# Altium footprint library HyTechDevices.PCBLIB: 204 footprints (part 5 of 13)
Each footprint in its own frame and in the unit in brackets; x right, y up, seen from the top. Pads: shape width x height; smd on the part's side, far side on the other; paste and mask are expansions set on the pad; w line width, h text height; cw(c..) or ccw(c..) is an arc to the next point about the centre after c.
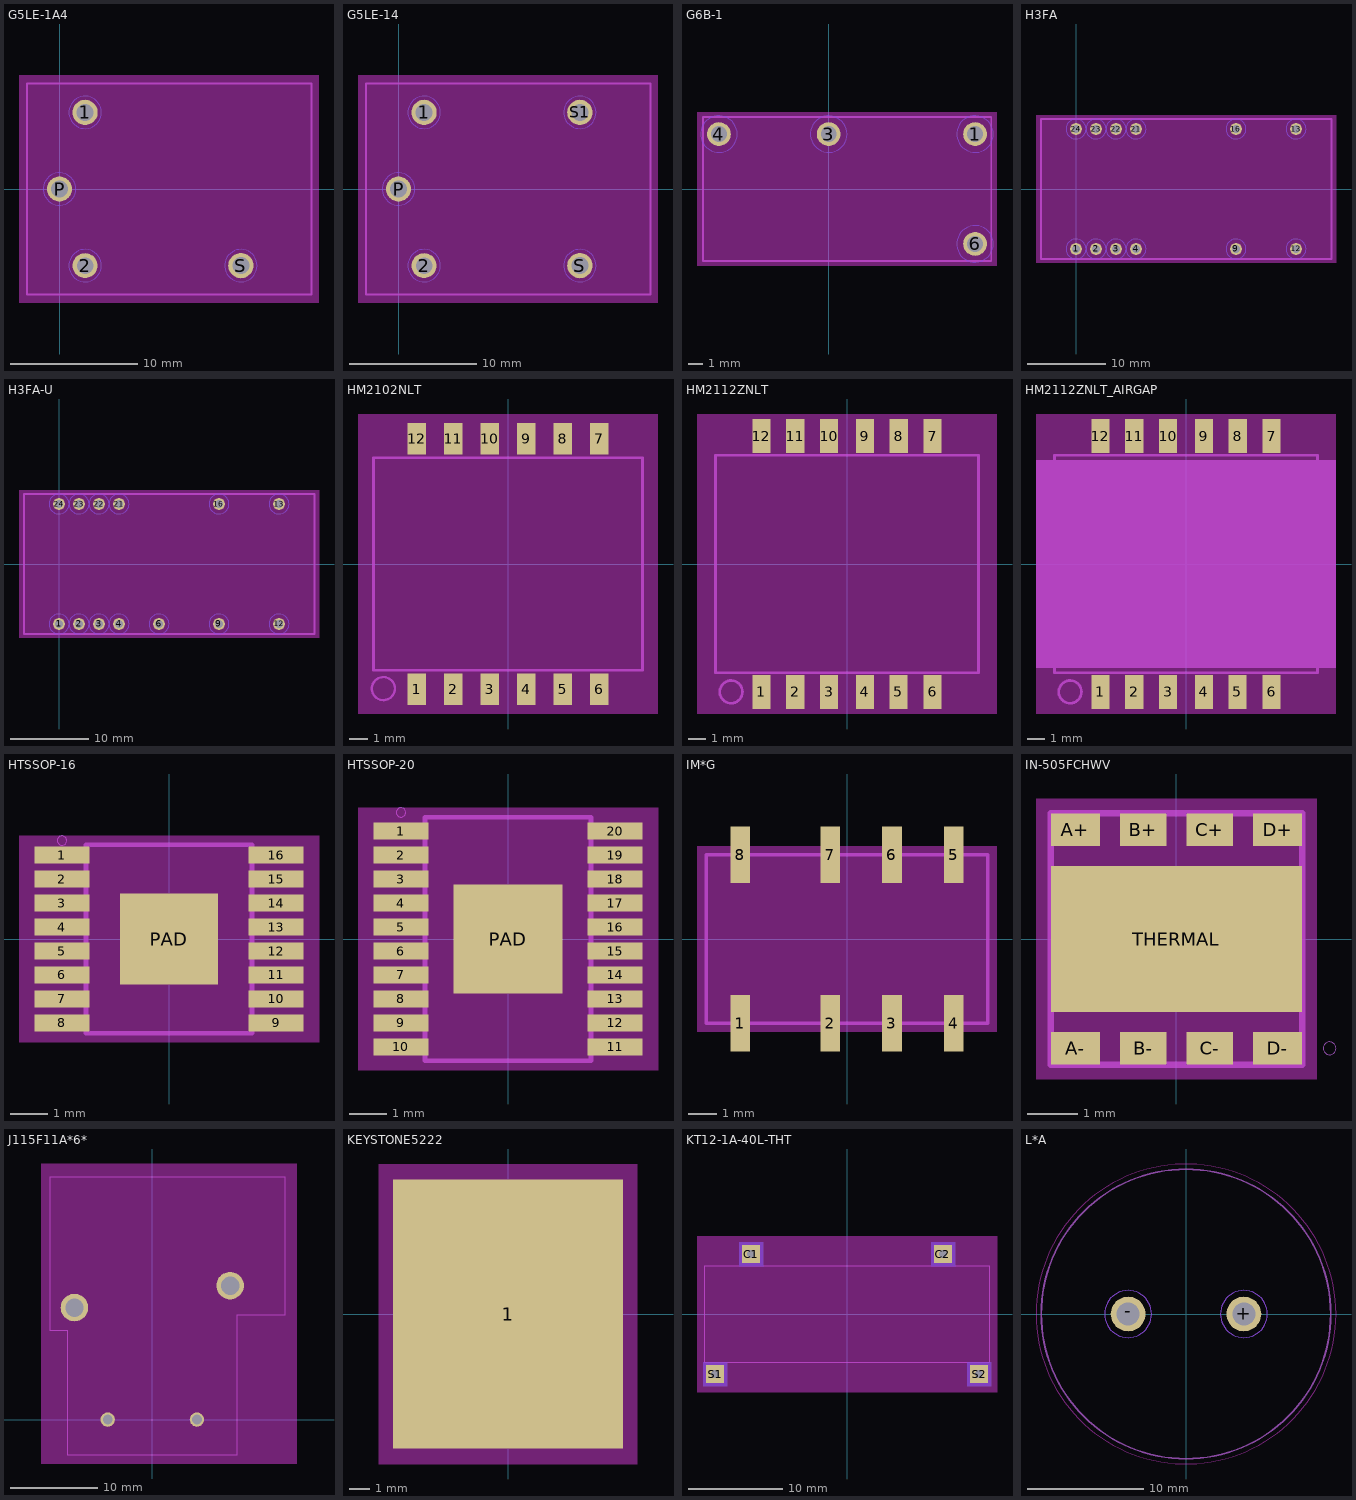
[diagram p4: the footprints below, top view; thin cyan lines are the x and y axes]

## G5LE-1A4 [mil]
pads (4):
  round 78 hole 52: 1(78.74,236.22) S(559.06,-236.22)
  round 76.77 hole 51.18: 2(78.74,-236.22) P(0,0)
Top keep-out:
  region: -125,-350 -125,350 800,350 800,-350
Bottom keep-out:
  circle w0: c78.74,236.22 r50
  circle w0: c78.74,-236.22 r50
  circle w0: c0,0 r50
  circle w0: c559.06,-236.22 r50
tPlace:
  lines w6: -100.39,-325 -100.39,325 777.56,325 777.56,-325 -100.39,-325

## G5LE-14 [mil]
pads (5):
  round 78 hole 52: 1(78.74,236.22) S(559.06,-236.22) S1(559.06,236.22)
  round 76.77 hole 51.18: 2(78.74,-236.22) P(0,0)
Top keep-out:
  region: -125,-350 -125,350 800,350 800,-350
Bottom keep-out:
  circle w0: c78.74,236.22 r50
  circle w0: c78.74,-236.22 r50
  circle w0: c0,0 r50
  circle w0: c559.06,-236.22 r50
  circle w0: c559.06,236.22 r50
tPlace:
  lines w6: -100.39,-325 -100.39,325 777.56,325 777.56,-325 -100.39,-325

## G6B-1 [mil]
pads (4):
  round 64.97 hole 43.31: 1(400,150) 3(0,150) 4(-300,150) 6(400,-150)
Top keep-out:
  region: -360,-210 -360,210 460,210 460,-210
Bottom keep-out:
  circle w0: c400,150 r50
  circle w0: c0,150 r50
  circle w0: c-300,150 r50
  circle w0: c400,-150 r50
tPlace:
  lines w5: -343.31,-196.85 -343.31,196.85 444.09,196.85 444.09,-196.85 -343.31,-196.85

## H3FA [mm]
pads (12):
  round 1.508 hole 1: 1(0,-7.62) 2(2.54,-7.62) 3(5.08,-7.62) 4(7.62,-7.62) 9(20.32,-7.62) 12(27.94,-7.62) 13(27.94,7.62) 16(20.32,7.62) 21(7.62,7.62) 22(5.08,7.62) 23(2.54,7.62) 24(0,7.62)
Top keep-out:
  region: -5.08,-9.398 -5.08,9.398 33.02,9.398 33.02,-9.398
Bottom keep-out:
  circle w0: c0,-7.62 r1.27
  circle w0: c2.54,-7.62 r1.27
  circle w0: c5.08,-7.62 r1.27
  circle w0: c7.62,-7.62 r1.27
  circle w0: c20.32,-7.62 r1.27
  circle w0: c27.94,-7.62 r1.27
  circle w0: c27.94,7.62 r1.27
  circle w0: c20.32,7.62 r1.27
  circle w0: c7.62,7.62 r1.27
  circle w0: c5.08,7.62 r1.27
  circle w0: c2.54,7.62 r1.27
  circle w0: c0,7.62 r1.27
tPlace:
  lines w0.254: -4.46,-8.875 32.44,-8.875 32.44,8.875 -4.46,8.875 -4.46,-8.875

## H3FA-U [mm]
pads (13):
  round 1.508 hole 1: 1(0,-7.62) 2(2.54,-7.62) 3(5.08,-7.62) 4(7.62,-7.62) 6(12.7,-7.62) 9(20.32,-7.62) 12(27.94,-7.62) 13(27.94,7.62) 16(20.32,7.62) 21(7.62,7.62) 22(5.08,7.62) 23(2.54,7.62) 24(0,7.62)
Top keep-out:
  region: -5.08,-9.398 -5.08,9.398 33.02,9.398 33.02,-9.398
Bottom keep-out:
  circle w0: c0,-7.62 r1.27
  circle w0: c2.54,-7.62 r1.27
  circle w0: c5.08,-7.62 r1.27
  circle w0: c7.62,-7.62 r1.27
  circle w0: c12.7,-7.62 r1.27
  circle w0: c20.32,-7.62 r1.27
  circle w0: c27.94,-7.62 r1.27
  circle w0: c27.94,7.62 r1.27
  circle w0: c20.32,7.62 r1.27
  circle w0: c7.62,7.62 r1.27
  circle w0: c5.08,7.62 r1.27
  circle w0: c2.54,7.62 r1.27
  circle w0: c0,7.62 r1.27
tPlace:
  lines w0.254: -4.46,-8.875 32.44,-8.875 32.44,8.875 -4.46,8.875 -4.46,-8.875

## HM2102NLT [mil]
pads (12):
  rect 40x67.5 smd: 1(-197.5,-271.25) 2(-118.5,-271.25) 3(-39.5,-271.25) 4(39.5,-271.25) 5(118.5,-271.25) 6(197.5,-271.25) 7(197.5,271.25) 8(118.5,271.25) 9(39.5,271.25) 10(-39.5,271.25) 11(-118.5,271.25) 12(-197.5,271.25)
Top keep-out:
  region: -325,-325 -325,325 325,325 325,-325
tPlace:
  circle w5: c-270,-270 r25
  lines w6: -291.5,-230 291.5,-230 291.5,230 -291.5,230 -291.5,-230

## HM2112ZNLT [mm]
pads (12):
  rect 1.02x1.89 smd: 1(-4.78,-7.145) 2(-2.89,-7.145) 3(-1,-7.145) 4(1,-7.145) 5(2.875,-7.145) 6(4.78,-7.145) 7(4.78,7.145) 8(2.89,7.145) 9(1,7.145) 10(-1,7.145) 11(-2.89,7.145) 12(-4.78,7.145)
Top keep-out:
  region: -8.382,-8.382 -8.382,8.382 8.382,8.382 8.382,-8.382
tPlace:
  circle w0.152: c-6.477,-7.145 r0.635
  lines w0.152: -7.351,-6.075 7.351,-6.075 7.35,6.075 -7.35,6.075 -7.351,-6.075

## HM2112ZNLT_AIRGAP [mm]
pads (12):
  rect 1.02x1.89 smd: 1(-4.78,-7.145) 2(-2.89,-7.145) 3(-1,-7.145) 4(1,-7.145) 5(2.875,-7.145) 6(4.78,-7.145) 7(4.78,7.145) 8(2.89,7.145) 9(1,7.145) 10(-1,7.145) 11(-2.89,7.145) 12(-4.78,7.145)
Top keep-out:
  region: -8.382,-8.382 -8.382,8.382 8.382,8.382 8.382,-8.382
Dimension:
  region: -8.382,5.76 -8.382,-5.76 8.382,-5.76 8.382,5.76
Milling:
  lines w0: -8.382,-5.76 8.382,-5.76 8.382,5.76 -8.382,5.76 -8.382,-5.76
tPlace:
  circle w0.152: c-6.477,-7.145 r0.635
  lines w0.152: -7.35,-6.075 7.35,-6.075 7.35,6.075 -7.35,6.075 -7.35,-6.075

## HTSSOP-16 [mm]
pads (17):
  rect 1.5x0.45 smd: 1(-2.9,2.275) 2(-2.9,1.625) 3(-2.9,0.975) 4(-2.9,0.325) 5(-2.9,-0.325) 6(-2.9,-0.975) 7(-2.9,-1.625) 8(-2.9,-2.275) 9(2.9,-2.275) 10(2.9,-1.625) 11(2.9,-0.975) 12(2.9,-0.325) 13(2.9,0.325) 14(2.9,0.975) 15(2.9,1.625) 16(2.9,2.275)
  rect 2.66x2.46 smd: PAD(0,0)
Top keep-out:
  region: -4.064,-2.794 -4.064,2.794 4.064,2.794 4.064,-2.794
tPlace:
  circle w0: c-2.9,2.667 r0.127
  lines w0.127: -2.25,-2.55 2.25,-2.55 2.25,2.55 -2.25,2.55 -2.25,-2.55

## HTSSOP-20 [mil]
pads (21):
  rect 59.06x17.72 smd: 1(-114.17,115.16) 2(-114.17,89.57) 3(-114.17,63.98) 4(-114.17,38.39) 5(-114.17,12.8) 6(-114.17,-12.8) 7(-114.17,-38.39) 8(-114.17,-63.98) 9(-114.17,-89.57) 10(-114.17,-115.16) 11(114.17,-115.16) 12(114.17,-89.57) 13(114.17,-63.98) 14(114.17,-38.39) 15(114.17,-12.8) 16(114.17,12.8) 17(114.17,38.39) 18(114.17,63.98) 19(114.17,89.57) 20(114.17,115.16)
  rect 116.54x116.54 smd: PAD(0,0)
Top keep-out:
  region: -160,-140 -160,140 160,140 160,-140
tPlace:
  circle w0: c-114.17,135 r5
  lines w5: -88.58,-129.92 88.58,-129.92 88.58,129.92 -88.58,129.92 -88.58,-129.92

## IM*G [mm]
pads (8):
  rect 0.7x2 smd: 1(-3.8,-3) 2(-0.6,-3) 3(1.6,-3) 4(3.8,-3) 5(3.8,3) 6(1.6,3) 7(-0.6,3) 8(-3.8,3)
Top keep-out:
  region: -5.334,-3.302 -5.334,3.302 5.334,3.302 5.334,-3.302
tPlace:
  lines w0.127: -5,-3 5,-3 5,3 -5,3 -5,-3

## IN-505FCHWV [mm]
pads (9):
  rect 0.975x0.65 smd: A+(-2.012,2.175) A-(-2.012,-2.175) D+(2.012,2.175) D-(2.012,-2.175)
  rect 0.925x0.65 smd: B+(-0.662,2.175) B-(-0.662,-2.175) C+(0.662,2.175) C-(0.662,-2.175)
  rect 5x2.9 smd: THERMAL(0,0)
Top keep-out:
  region: -2.794,-2.794 -2.794,2.794 2.794,2.794 2.794,-2.794
tPlace:
  circle w0: c3.048,-2.175 r0.127
  lines w0.127: -2.5,-2.5 2.5,-2.5 2.5,2.5 -2.5,2.5 -2.5,-2.5
  text "+" at -3.048,1.778 h1.18
  text "-" at -3.048,-1.778 h1.57

## J115F11A*6* [mil]
pads (4):
  round 64.97 hole 43.31: COIL1(-200.79,0) COIL2(200.79,0)
  round 124.02 hole 82.68: CONTACT1(350.39,602.36) CONTACT2(-350.39,503.94)
Top keep-out:
  region: -500,-200 -500,1150 650,1150 650,-200
tPlace:
  lines w5: -460.63,401.57 -460.63,1090.55 598.43,1090.55 598.43,472.44 381.89,472.44 381.89,-157.48 -381.89,-157.48 -381.89,401.57 -460.63,401.57

## KEYSTONE5222 [mil]
pads (1):
  rect 445x520 smd: 1(0,0)
Top keep-out:
  region: -250,-290 -250,290 250,290 250,-290

## KT12-1A-40L-THT [mil]
pads (4):
  rect 74.8x74.8 / inner round 69.11 / far side rect 74.8x74.8 hole 33.46: C1(-399.61,250) C2(399.61,250) S1(-550,-250) S2(550,-250)
Top keep-out:
  region: -625,-325 -625,325 625,325 625,-325
Bottom keep-out:
  region: -450,200 -450,300 -350,300 -350,200
  region: 350,200 350,300 450,300 450,200
  region: 500,-300 500,-200 600,-200 600,-300
  region: -600,-300 -600,-200 -500,-200 -500,-300
tPlace:
  lines w5: -594.49,-200.79 594.49,-200.79 594.49,200.79 -594.49,200.79 -594.49,-200.79

## L*A [mm]
pads (2):
  round 3 hole 2: +(5,0) -(-5,0)
Top keep-out:
  circle w0: c0,0 r12.954
Bottom keep-out:
  circle w0: c-5,0 r2.032
  circle w0: c5,0 r2.032
tPlace:
  circle w0.152: c0,0 r12.5
  text "+" at 13.97,0 h1.51
  text "-" at -13.97,0 h1.51